# Altium schematic symbol library Mechanical.SchLib: 14 symbols
Pins are listed as number, name and electrical type; pins without a type are passive.

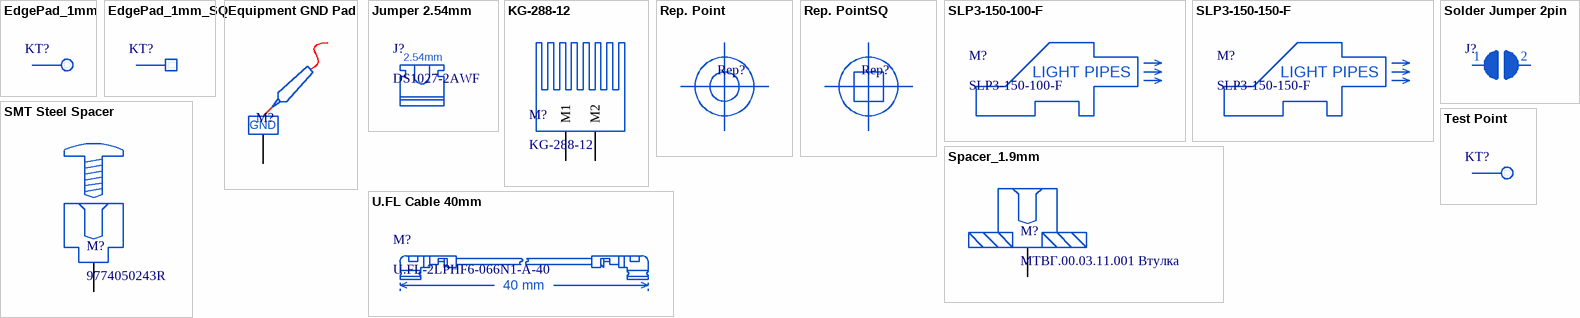
[diagram p0: symbols EdgePad_1mm to U.FL Cable 40mm]

## EdgePad_1mm
designator KT?  (net tie, no BOM)
Edge pad, 1mm Hole; Mounting: NONE
footprint EDGE_PAD_1MM (PCB Edge Pad, 1mm Hole)
pins: 1

## EdgePad_1mm_SQ
designator KT?  (net tie, no BOM)
Edge pad, 1mm Hole; Mounting: NONE
footprint EDGE_PAD_1MM_SQ (PCB Edge Pad, 1mm Hole)
pins: 1

## Equipment GND Pad
designator M?  (no BOM)
GND pad for measuring equipment; Mounting: THT
footprint GND_HOLDER (GND Holder for measuring equipment)
pins: 1 1p
text: GND

## Jumper 2.54mm
designator J?, comment DS1027-2AWF  (mechanical)
Jumper 2.54mm; Manufacturer: Connfly; ItemType: Mechnical; PartNumber: DS1027-2AWF; ItemSubType: Jumper; Mounting: NONE
text: 2.54mm

## KG-288-12
designator M?
Heatsink 20х40х20 mm; Manufacturer: Kingcooler; ItemType: Mechanical; PartNumber: KG-288-12; ItemSubType: Heatsink; Mounting: THT
footprint KG-288-12 (HEATSINK 20x40x20MM)
pins: 1 M1, 2 M2

## Rep. Point
designator Rep?  (no BOM)
Rep. Point; Mounting: NONE
footprint Rep_1mm (Rep. Point 1mm)
pins: 1

## Rep. PointSQ
designator Rep?  (no BOM)
Rep. Point; Mounting: NONE
footprint Rep_1mmSQ (Rep. Point 1mm)
pins: 1

## SLP3-150-100-F
designator M?
LED Indication, Rigid Light Pipes 100 mils; Manufacturer: Bivar; ItemType: Mechanical; PartNumber: SLP3-150-100-F; ItemSubType: Light Pipes; Mounting: NONE
footprint SLP3-150-100-F (LED Indication, Rigid Light Pipes)
pins: KEY
text: LIGHT PIPES

## SLP3-150-150-F
designator M?
LED Indication, Rigid Light Pipes 100 mils; Manufacturer: Bivar; ItemType: Mechanical; PartNumber: SLP3-150-150-F; ItemSubType: Light Pipes; Mounting: NONE
footprint SLP3-150-150-F (LED Indication, Rigid Light Pipes)
pins: KEY
text: LIGHT PIPES

## SMT Steel Spacer
designator M?, comment 9774050243R
SMT Steel Spacer with internal Thread; Manufacturer: Wurth Electronics Inc.; ItemType: Mechanical; PartNumber: 9774050243R; ItemSubType: Steel Spacer; Mounting: SMD
footprint 9774050243R (SMT Steel Spacer with internal Thread)
pins: 1 1p

## Solder Jumper 2pin
designator J?  (value not drawn)  (net tie, no BOM)
Mounting: NONE
footprint JUMPER_3x3mm (Solder jumper 3x3 mm)
footprint JUMPER_1.5x1.5mm (Solder jumper 1.5x1.5 mm)
pins: 1, 2

## Spacer_1.9mm
designator M?, comment МТВГ.00.03.11.001 Втулка
Spacer Э-0025; Manufacturer: Миг-Трейдинг; ItemType: Mechanical; ItemSubType: Steel Spacer; PartNumber: МТВГ.00.03.11.001 Втулка; Mounting: SMD
footprint E-0025 (МТВГ.00.03.11.001 Втулка, Э-0025)
pins: 1 1p

## Test Point
designator KT?  (net tie, no BOM)
Test pad; Mounting: NONE
footprint TEST_PAD_1MM_SQ (Test Point, SQ)
footprint TEST_PAD_D1mm (Test Point, R = 0.5mm)
pins: 1

## U.FL Cable 40mm
designator M?, comment U.FL-2LPHF6-066N1-A-40  (mechanical)
Coaxial cable; Manufacturer: Hirose; ItemType: Mechnical; PartNumber: U.FL-2LPHF6-066N1-A-40; ItemSubType: Cable; Mounting: NONE
text: 40 mm